# EAGLE library part AD7533 (library EW_00_Ken)
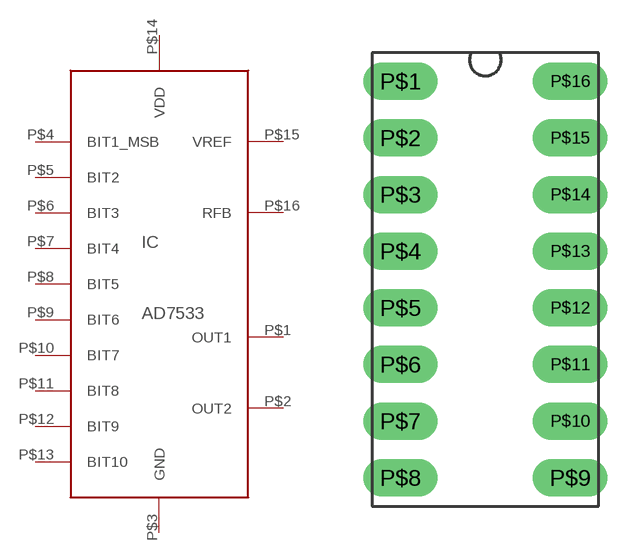
[diagram p12: symbol with the pads of DIL_SOCKET_16_PIN; footprint DIL_SOCKET_16_PIN]

Designator prefix IC

## AD7533  [DIL_SOCKET_16_PIN]
P$1  OUT1  out
P$2  OUT2  out
P$3  GND  pwr
P$4  BIT1_MSB  in
P$5  BIT2  in
P$6  BIT3  in
P$7  BIT4  in
P$8  BIT5  in
P$9  BIT6  in
P$10  BIT7  in
P$11  BIT8  in
P$12  BIT9  in
P$13  BIT10  in
P$14  VDD  pwr
P$15  VREF  in
P$16  RFB  in

## Footprint DIL_SOCKET_16_PIN (pad centres in mm)
drill 0.6 pad 1.676 long: P$1 -3.81,8.89; P$2 -3.81,6.35; P$3 -3.81,3.81; P$4 -3.81,1.27; P$5 -3.81,-1.27; P$6 -3.81,-3.81; P$7 -3.81,-6.35; P$8 -3.81,-8.89; P$9 3.81,-8.89; P$10 3.81,-6.35; P$11 3.81,-3.81; P$12 3.81,-1.27; P$13 3.81,1.27; P$14 3.81,3.81; P$15 3.81,6.35; P$16 3.81,8.89